# Altium schematic symbol library CustomSymbols.SchLib: 1 symbol
Pins are listed as number, name and electrical type; pins without a type are passive.

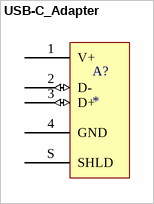
[diagram p0: symbol USB-C_Adapter]

## USB-C_Adapter
designator A?  (no BOM)
footprint Usb-C_Adapter
pins: 1 V+ (power), 2 D- (io), 3 D+ (io), 4 GND (power), S SHLD